# Altium schematic symbol library MCU_NXP_MCore.SchLib: 1 symbol
Pins are listed as number, name and electrical type; pins without a type are passive.

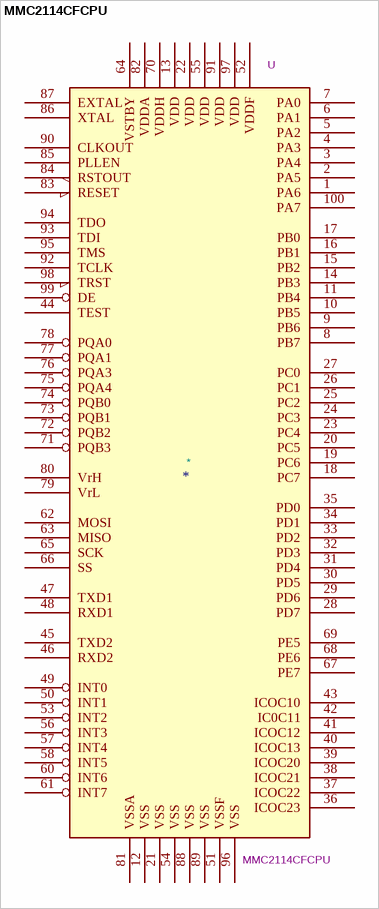
[diagram p0: symbol MMC2114CFCPU]

## MMC2114CFCPU
designator *  value MMC2114CFCPU  Reference: U
Motorola M*CORE  upro 100 pins; Datasheet: motorola/mmc2114.pdf; Description_: Motorola M*CORE  upro 100 pins
pins: 1 PA6, 2 PA5, 3 PA4, 4 PA3, 5 PA2, 6 PA1, 7 PA0, 8 PB7, 9 PB6, 10 PB5, 11 PB4, 12 VSS, 13 VDD, 14 PB3, 15 PB2, 16 PB1, 17 PB0, 18 PC7, 19 PC6, 20 PC5, 21 VSS, 22 VDD, 23 PC4, 24 PC3, 25 PC2, 26 PC1, 27 PC0, 28 PD7, 29 PD6, 30 PD5, 31 PD4, 32 PD3, 33 PD2, 34 PD1, 35 PD0, 36 ICOC23, 37 ICOC22, 38 ICOC21, 39 ICOC20, 40 ICOC13, 41 ICOC12, 42 IC0C11, 43 ICOC10, 44 TEST, 45 TXD2, 46 RXD2, 47 TXD1, 48 RXD1, 49 INT0, 50 INT1, 51 VSSF, 52 VDDF, 53 INT2, 54 VSS, 55 VDD, 56 INT3, 57 INT4, 58 INT5, 60 INT6, 61 INT7, 62 MOSI, 63 MISO, 64 VSTBY, 65 SCK, 66 SS, 67 PE7, 68 PE6, 69 PE5, 70 VDDH, 71 PQB3, 72 PQB2, 73 PQB1, 74 PQB0, 75 PQA4, 76 PQA3, 77 PQA1, 78 PQA0, 79 VrL, 80 VrH, 81 VSSA, 82 VDDA, 83 RESET, 84 RSTOUT, 85 PLLEN, 86 XTAL, 87 EXTAL, 88 VSS, 89 VSS, 90 CLKOUT, 91 VDD, 92 TCLK, 93 TDI, 94 TDO, 95 TMS, 96 VSS, 97 VDD, 98 TRST, 99 DE, 100 PA7